# Altium schematic symbol library solderPad.SchLib: 1 symbol
Pins are listed as number, name and electrical type; pins without a type are passive.

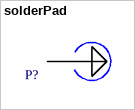
[diagram p0: symbol solderPad]

## solderPad
designator P?  (value not drawn)
footprint solderPad
footprint solderPad_2
pins: 20